# EAGLE library part LM4780 (library Audio-Power-amlifier V.2.0)
The LM4780 is an stereo audio amplifier capable of typically delivering 60W per channel of continuous average output power into an 8Ω load with less than 0.5% THD+N from 20Hz - 20kHz. The LM4780 is fully protected utilizing National's Self Peak Instantaneous Temperature (°Ke) (SPiKeTM) protection circuitry. SPiKe provides a dynamically optimized Safe Operating Area (SOA). SPiKe protection completely safeguards the LM4780's outputs against over-voltage, under-voltage, overloads, shorts to the supplies or GND, thermal runaway and instantaneous temperature peaks. The advanced protection features of the LM4780 places it in a class above discrete and hybrid amplifiers. Each amplifier of the LM4780 has an independent smooth transition fade-in/out mute. The LM4780 can easily be configured for bridge or parallel operation for 120W mono solutions.
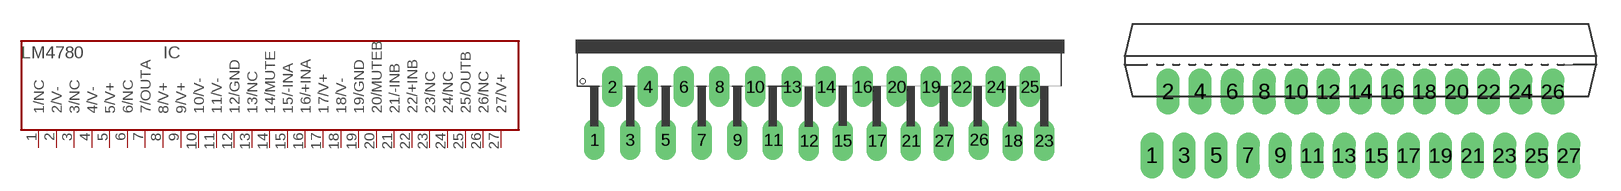
[diagram p84: symbol with the pads of SQL-27; footprints SQL-27, TO-220-27TA]

Designator prefix IC

## LM4780  [SQL-27]
1  1/NC  nc
2  2/V-  pwr
3  3/NC  nc
4  4/V-  pwr
5  5/V+  pwr
6  6/NC  nc
7  7/OUTA  out
8  8/V+  pwr
9  9/V+  pwr
10  10/V-  pwr
11  11/V-  pwr
12  12/GND  pwr
13  13/NC  nc
14  14/MUTE  in
15  15/-INA  in
16  16/+INA  in
17  17/V+  pwr
18  18/V-  pwr
19  19/GND  pwr
20  20/MUTEB  in
21  21/-INB  in
22  22/+INB  in
23  23/NC  nc
24  24/NC  nc
25  25/OUTB  out
26  26/NC  nc
27  27/V+  pwr

## LM4780LM4780BD  [TO-220-27TA]
Pads as for SQL-27

## Footprint SQL-27 (pad centres in mm)
drill 1.3 long: 1 -7.239,1.905; 2 -5.537,6.96; 3 -3.835,1.905; 4 -2.134,6.96; 5 -0.432,1.905; 6 1.27,6.96; 7 2.972,1.905; 8 4.674,6.96; 9 6.375,1.905; 10 8.077,6.96; 11 9.779,1.905; 12 13.207,1.83; 13 11.587,6.96; 14 14.827,6.96; 15 16.447,1.83; 16 18.337,6.96; 17 19.687,1.83; 18 32.647,1.83; 19 24.817,6.96; 20 21.577,6.96; 21 22.927,1.83; 22 27.787,6.96; 23 35.617,1.83; 24 31.027,6.96; 25 34.267,6.96; 26 29.407,1.93; 27 26.067,1.83

## Footprint TO-220-27TA (pad centres in mm)
TO-220_MKT-TA27A , MOLDED (inch. 1,150x0,618x0,177 - body_0,040 pitch )
drill 0.5 pad 1.422 long: 1 -13.007,-3.988; 2 -12.009,0; 3 -11.008,-3.988; 4 -10.008,0; 5 -9.007,-3.988; 6 -8.006,0; 7 -7.005,-3.988; 8 -6.002,0; 9 -5.004,-3.988; 10 -4.003,0; 11 -3.002,-3.988; 12 -1.999,0; 13 -1.001,-3.99; 14 0,0; 15 1.001,-3.988; 16 2.002,0; 17 3.002,-3.988; 18 4.003,0; 19 5.004,-3.988; 20 6.007,0; 21 7.005,-3.988; 22 8.006,0; 23 9.009,-3.988; 24 10.008,0; 25 11.008,-3.988; 26 12.009,0; 27 13.01,-3.988